# Altium footprint library LFCSP.PcbLib: 1 footprints
Each footprint in its own frame and in the unit in brackets; x right, y up, seen from the top. Pads: shape width x height; smd on the part's side, far side on the other; paste and mask are expansions set on the pad; w line width, h text height; cw(c..) or ccw(c..) is an arc to the next point about the centre after c.
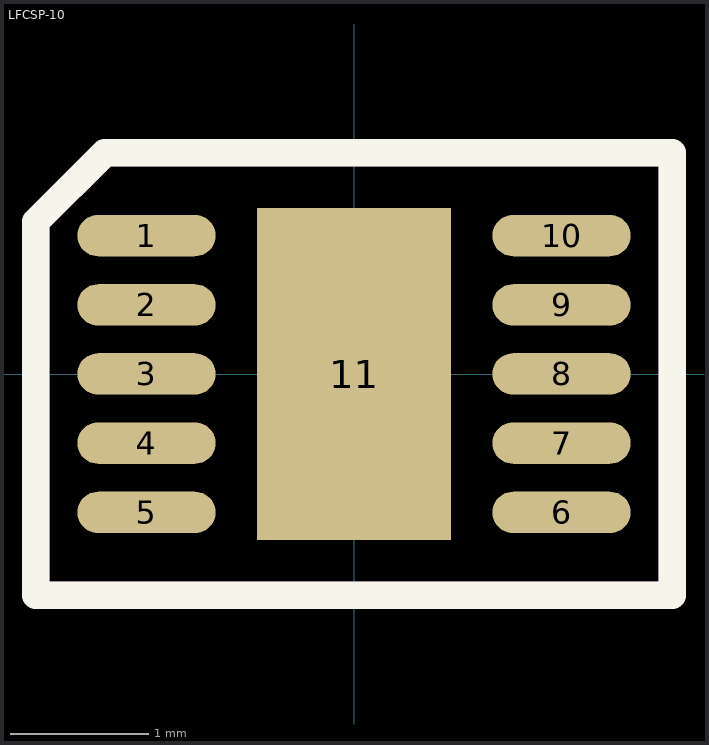
[diagram p0: the footprint, top view; thin cyan lines are the x and y axes]

## LFCSP-10 [mm]
height 1.6
pads (11):
  oval 1x0.3 smd: 1(-1.5,1) 2(-1.5,0.5) 3(-1.5,0) 4(-1.5,-0.5) 5(-1.5,-1) 6(1.5,-1) 7(1.5,-0.5) 8(1.5,0) 9(1.5,0.5) 10(1.5,1)
  rect 1.4x2.4 smd: 11(0,0)
Top Overlay:
  lines w0.2: -2.3,-1.6 2.3,-1.6 2.3,1.6 -1.8,1.6 -2.3,1.1 -2.3,-1.6
TopAssy:
  lines w0.2: -2.3,-1.6 2.3,-1.6 2.3,1.6 -1.8,1.6 -2.3,1.1 -2.3,-1.6
  text ".Designator" at -2.4,-0.1 h1
3D body "LFCSP_WD-10.step": height 0.8, standoff 0, extent -1.55,-1.5 1.55,1.5